# EAGLE library part XVF3000-TQ128-C (library XVF3000-TQ128-C)
IC PROC 32BIT VOICE XCORE TQ128 Source: Datasheet <https://datasheet.datasheetarchive.com/originals/distributors/DKDS-37/730530.pdf>
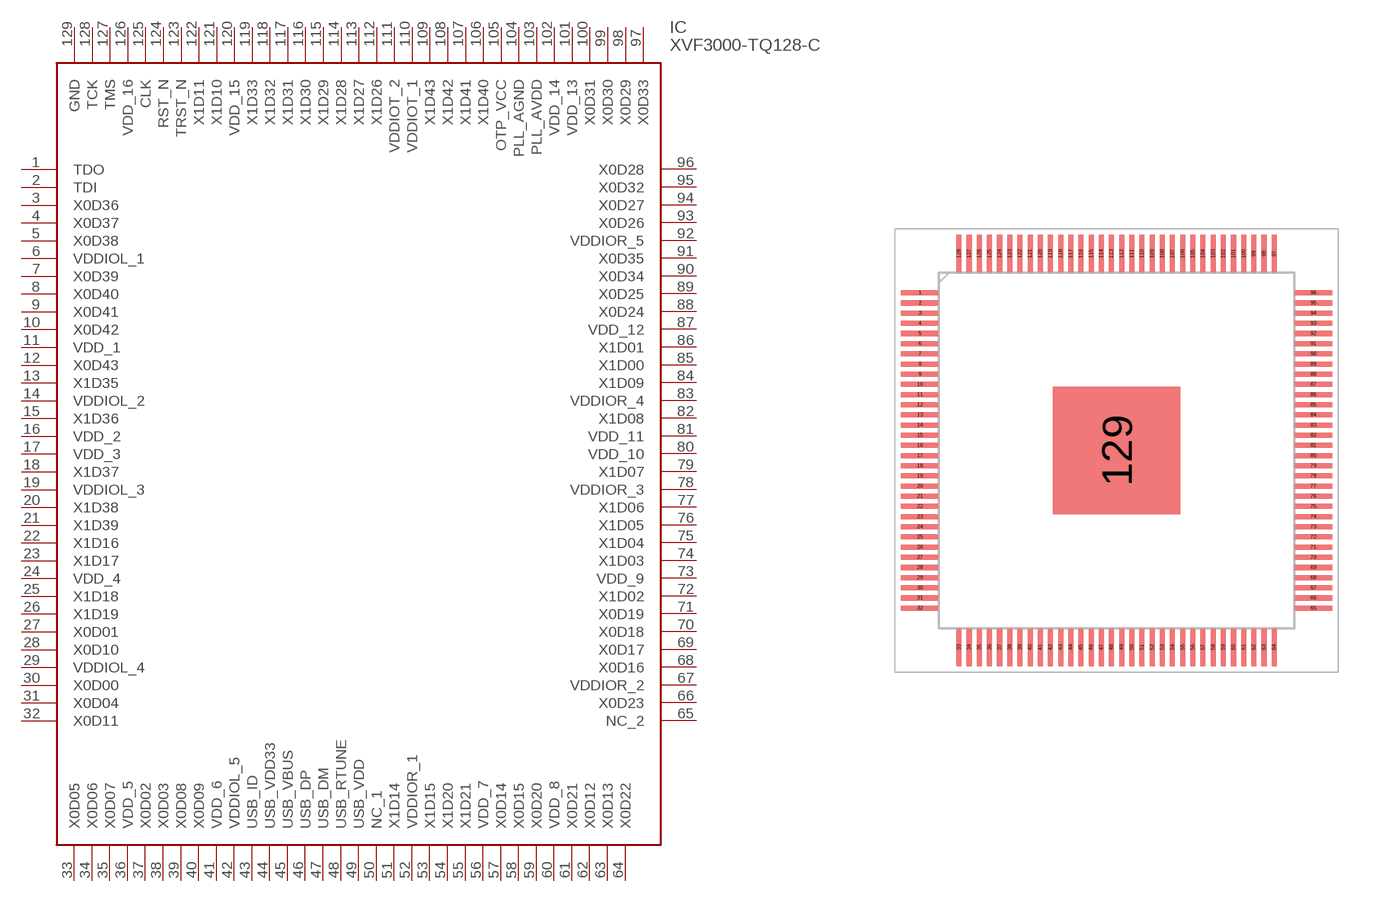
[diagram p0: symbol with the pads of QFP40P1600X1600X120-129N; footprint QFP40P1600X1600X120-129N]

Designator prefix IC

## XVF3000-TQ128-C (Description: IC PROC 32BIT VOICE XCORE TQ128; Height: 1.2mm; Manufacturer_Name: XMOS; Manufacturer_Part_Number: XVF3000-TQ128-C)  [QFP40P1600X1600X120-129N]
1  TDO
2  TDI
3  X0D36
4  X0D37
5  X0D38
6  VDDIOL_1
7  X0D39
8  X0D40
9  X0D41
10  X0D42
11  VDD_1
12  X0D43
13  X1D35
14  VDDIOL_2
15  X1D36
16  VDD_2
17  VDD_3
18  X1D37
19  VDDIOL_3
20  X1D38
21  X1D39
22  X1D16
23  X1D17
24  VDD_4
25  X1D18
26  X1D19
27  X0D01
28  X0D10
29  VDDIOL_4
30  X0D00
31  X0D04
32  X0D11
33  X0D05
34  X0D06
35  X0D07
36  VDD_5
37  X0D02
38  X0D03
39  X0D08
40  X0D09
41  VDD_6
42  VDDIOL_5
43  USB_ID
44  USB_VDD33
45  USB_VBUS
46  USB_DP
47  USB_DM
48  USB_RTUNE
49  USB_VDD
50  NC_1
51  X1D14
52  VDDIOR_1
53  X1D15
54  X1D20
55  X1D21
56  VDD_7
57  X0D14
58  X0D15
59  X0D20
60  VDD_8
61  X0D21
62  X0D12
63  X0D13
64  X0D22
65  NC_2
66  X0D23
67  VDDIOR_2
68  X0D16
69  X0D17
70  X0D18
71  X0D19
72  X1D02
73  VDD_9
74  X1D03
75  X1D04
76  X1D05
77  X1D06
78  VDDIOR_3
79  X1D07
80  VDD_10
81  VDD_11
82  X1D08
83  VDDIOR_4
84  X1D09
85  X1D00
86  X1D01
87  VDD_12
88  X0D24
89  X0D25
90  X0D34
91  X0D35
92  VDDIOR_5
93  X0D26
94  X0D27
95  X0D32
96  X0D28
97  X0D33
98  X0D29
99  X0D30
100  X0D31
101  VDD_13
102  VDD_14
103  PLL_AVDD
104  PLL_AGND
105  OTP_VCC
106  X1D40
107  X1D41
108  X1D42
109  X1D43
110  VDDIOT_1
111  VDDIOT_2
112  X1D26
113  X1D27
114  X1D28
115  X1D29
116  X1D30
117  X1D31
118  X1D32
119  X1D33
120  VDD_15
121  X1D10
122  X1D11
123  TRST_N
124  RST_N
125  CLK
126  VDD_16
127  TMS
128  TCK
129  GND

## Footprint QFP40P1600X1600X120-129N (pad centres in mm)
XVF3000-TQ128-C-1
smd 1.475 x 0.2: 1 -7.738,6.2; 2 -7.738,5.8; 3 -7.738,5.4; 4 -7.738,5; 5 -7.738,4.6; 6 -7.738,4.2; 7 -7.738,3.8; 8 -7.738,3.4; 9 -7.738,3; 10 -7.738,2.6; 11 -7.738,2.2; 12 -7.738,1.8; 13 -7.738,1.4; 14 -7.738,1; 15 -7.738,0.6; 16 -7.738,0.2; 17 -7.738,-0.2; 18 -7.738,-0.6; 19 -7.738,-1; 20 -7.738,-1.4; 21 -7.738,-1.8; 22 -7.738,-2.2; 23 -7.738,-2.6; 24 -7.738,-3; 25 -7.738,-3.4; 26 -7.738,-3.8; 27 -7.738,-4.2; 28 -7.738,-4.6; 29 -7.738,-5; 30 -7.738,-5.4; 31 -7.738,-5.8; 32 -7.738,-6.2; 65 7.738,-6.2; 66 7.738,-5.8; 67 7.738,-5.4; 68 7.738,-5; 69 7.738,-4.6; 70 7.738,-4.2; 71 7.738,-3.8; 72 7.738,-3.4; 73 7.738,-3; 74 7.738,-2.6; 75 7.738,-2.2; 76 7.738,-1.8; 77 7.738,-1.4; 78 7.738,-1; 79 7.738,-0.6; 80 7.738,-0.2; 81 7.738,0.2; 82 7.738,0.6; 83 7.738,1; 84 7.738,1.4; 85 7.738,1.8; 86 7.738,2.2; 87 7.738,2.6; 88 7.738,3; 89 7.738,3.4; 90 7.738,3.8; 91 7.738,4.2; 92 7.738,4.6; 93 7.738,5; 94 7.738,5.4; 95 7.738,5.8; 96 7.738,6.2
smd 0.2 x 1.475: 33 -6.2,-7.738; 34 -5.8,-7.738; 35 -5.4,-7.738; 36 -5,-7.738; 37 -4.6,-7.738; 38 -4.2,-7.738; 39 -3.8,-7.738; 40 -3.4,-7.738; 41 -3,-7.738; 42 -2.6,-7.738; 43 -2.2,-7.738; 44 -1.8,-7.738; 45 -1.4,-7.738; 46 -1,-7.738; 47 -0.6,-7.738; 48 -0.2,-7.738; 49 0.2,-7.738; 50 0.6,-7.738; 51 1,-7.738; 52 1.4,-7.738; 53 1.8,-7.738; 54 2.2,-7.738; 55 2.6,-7.738; 56 3,-7.738; 57 3.4,-7.738; 58 3.8,-7.738; 59 4.2,-7.738; 60 4.6,-7.738; 61 5,-7.738; 62 5.4,-7.738; 63 5.8,-7.738; 64 6.2,-7.738; 97 6.2,7.738; 98 5.8,7.738; 99 5.4,7.738; 100 5,7.738; 101 4.6,7.738; 102 4.2,7.738; 103 3.8,7.738; 104 3.4,7.738; 105 3,7.738; 106 2.6,7.738; 107 2.2,7.738; 108 1.8,7.738; 109 1.4,7.738; 110 1,7.738; 111 0.6,7.738; 112 0.2,7.738; 113 -0.2,7.738; 114 -0.6,7.738; 115 -1,7.738; 116 -1.4,7.738; 117 -1.8,7.738; 118 -2.2,7.738; 119 -2.6,7.738; 120 -3,7.738; 121 -3.4,7.738; 122 -3.8,7.738; 123 -4.2,7.738; 124 -4.6,7.738; 125 -5,7.738; 126 -5.4,7.738; 127 -5.8,7.738; 128 -6.2,7.738
smd 5 x 5: 129 0,0